# EAGLE library part DS3231 (library masterclock)
SPI RTC module with battery backup and internal clock.
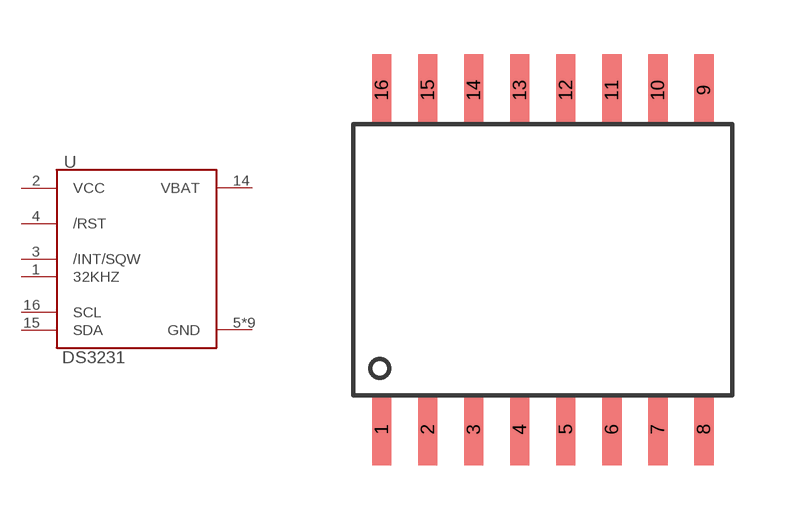
[diagram p1: symbol with the pads of SO16; footprint SO16]

Designator prefix -

## DS3231  [SO16]
1  32KHZ
2  VCC
3  /INT/SQW
4  /RST
5  GND
6  GND
7  GND
8  GND
9  GND
10  GND
11  GND
12  GND
13  GND
14  VBAT
15  SDA
16  SCL

## Footprint SO16 (pad centres in mm)
smd 0.53 x 1.98: 1 -4.445,-4.685; 2 -3.175,-4.685; 3 -1.905,-4.685; 4 -0.635,-4.685; 5 0.635,-4.685; 6 1.905,-4.685; 7 3.175,-4.685; 8 4.445,-4.685; 9 4.445,4.685; 10 3.175,4.685; 11 1.905,4.685; 12 0.635,4.685; 13 -0.635,4.685; 14 -1.905,4.685; 15 -3.175,4.685; 16 -4.445,4.685